# Altium schematic symbol library ADM2483BRWZ.SchLib: 1 symbol
Pins are listed as number, name and electrical type; pins without a type are passive.

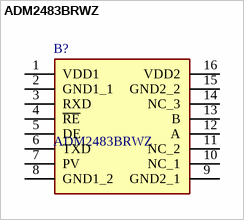
[diagram p0: symbol ADM2483BRWZ]

## ADM2483BRWZ
designator B?
Half-Duplex, iCoupler Isolated RS-485 Transceiver; Manufacturer_Name: Analog Devices; Geometry.Height: 2.65mm; Manufacturer_Part_Number: ADM2483BRWZ; Mouser Part Number: 584-ADM2483BRWZ; Mouser Price/Stock: https://www.mouser.co.uk/ProductDetail/Analog-Devices/ADM2483BRWZ?qs=BpaRKvA4VqH5Kim10agOlw%3D%3D; Arrow Part Number: ADM2483BRWZ; Arrow Price/Stock: https://www.arrow.com/en/products/adm2483brwz/analog-devices?utm_currency=USD&region=europe; Datasheet Link: http://uk.rs-online.com/web/p/products/0412719P
footprint SOIC127P1032X265-16N
pins: 1 VDD1, 2 GND1_1, 3 RXD, 4 ~{RE}, 5 DE, 6 TXD, 7 PV, 8 GND1_2, 9 GND2_1, 10 NC_1, 11 NC_2, 12 A, 13 B, 14 NC_3, 15 GND2_2, 16 VDD2